# Altium footprint library Tesla_Coil_Parts2.PcbLib: 12 footprints
Each footprint in its own frame and in the unit in brackets; x right, y up, seen from the top. Pads: shape width x height; smd on the part's side, far side on the other; paste and mask are expansions set on the pad; w line width, h text height; cw(c..) or ccw(c..) is an arc to the next point about the centre after c.
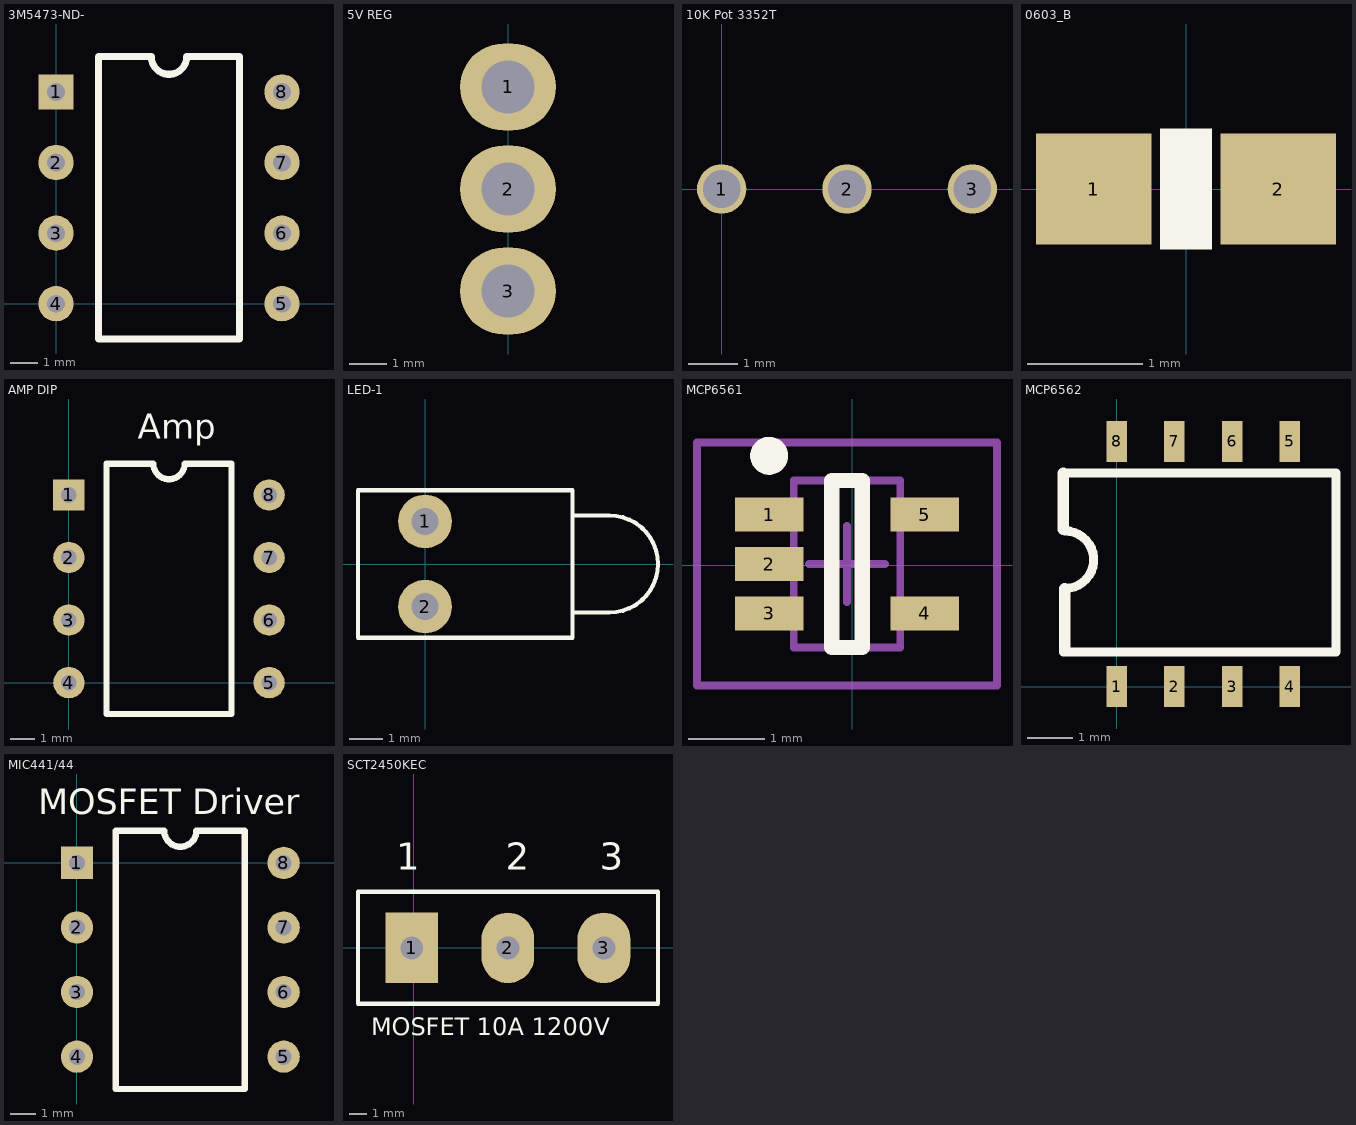
[diagram p0: the footprints below, top view; thin cyan lines are the x and y axes]

## 1-1623849-0 [mil]
via 190,0 diameter 39.37 hole 31.5
via 98.43,0 diameter 39.37 hole 31.5
via 0,0 diameter 39.37 hole 31.5

## 3M5473-ND- [mil]
pads (8):
  rect 50x50 hole 25: 1(0,300)
  round 50 hole 25: 2(0,200) 3(0,100) 4(0,0) 5(320,0) 6(320,100) 7(320,200) 8(320,300)
Top Overlay:
  lines w10: 60,-50 260,-50 260,350 185,350 cw(c160,350) 135,350 60,350 60,-50

## 5V REG [mm]
pads (3):
  oval 2.54x2.3 hole 1.4: 1(0,-5.4) 2(0,-8.1) 3(0,-10.8)

## 10K Pot 3352T [mm]
pads (3):
  round 1 hole 0.762: 1(0,0) 2(2.54,0) 3(5.08,0)

## 0603_B [mm] "0603 Style B SMT resistor"
height 0.96
pads (2):
  rect 1x0.96 smd mask+0.064: 1(-0.8,0) 2(0.8,0)
Top Overlay:
  rectangle: -0.225,-0.525 0.225,0.525
3D body "RES0603.stp": height 0.45, standoff 0, extent -0.8,-0.4 0.8,0.4

## AMP DIP [mil] "Random 8 pin DIP amp"
pads (8):
  rect 50x50 hole 25: 1(0,300)
  round 50 hole 25: 2(0,200) 3(0,100) 4(0,0) 5(320,0) 6(320,100) 7(320,200) 8(320,300)
Top Overlay:
  lines w10: 60,-50 260,-50 260,350 185,350 cw(c160,350) 135,350 60,350 60,-50
  text "Amp" at 110,390 h39.37

## DIP4 [mil]

## LED-1 [mm] "Typical RED GaAs LED; 2 Leads"
pads (2):
  round 1.6 hole 0.8: 1(0,1.27) 2(0,-1.27)
Top Overlay:
  lines w0.127: 4.4,-1.45 5.5,-1.45 ccw(c5.5,0) 5.5,1.45 4.4,1.45 ; -2,-2.2 4.4,-2.2 4.4,2.2 -2,2.2 -2,-2.2

## MCP6561 [mm] "1.8V Output Comparator"
height 0.028
pads (5):
  rect 0.9x0.45 smd: 1(-1.091,0.665) 2(-1.091,0.015) 3(-1.091,-0.635) 4(0.959,-0.635) 5(0.959,0.665)
Top Overlay:
  circle w0.25: c-1.091,1.44 r0.125
  lines w0.2: -0.266,-1.085 0.134,-1.085 0.134,1.115 -0.266,1.115 -0.266,-1.085
Mechanical 13:
  lines w0.1: -0.766,-1.085 -0.766,1.115 0.634,1.115 0.634,-1.085 -0.766,-1.085
Mechanical 15:
  lines w0.1: -0.566,0.015 0.434,0.015 ; -0.066,-0.485 -0.066,0.515 ; -2.041,-1.585 -2.041,1.615 1.909,1.615 1.909,-1.585 -2.041,-1.585
3D body: height 1.1, standoff 0, extent -0.766,-1.085 0.634,1.115

## MCP6562 [mm] "1.8V Output Comparator"
height 0.028
pads (8):
  rect 0.45x0.9 smd: 1(0,0) 2(1.27,0) 3(2.54,0) 4(3.81,0) 5(3.81,5.4) 6(2.54,5.4) 7(1.27,5.4) 8(0,5.4)
Top Overlay:
  lines w0.2: -1.174,0.762 4.826,0.762 4.826,4.662 ; -1.174,4.699 4.826,4.699 ; -1.143,2.159 ccw(c-1.143,2.794) -1.143,3.429
  lines w0.254: -1.174,3.46 -1.174,4.699 ; -1.143,0.793 -1.143,2.159

## MIC441/44 [mil]
pads (8):
  rect 50x50 hole 25: 1(0,0)
  round 50 hole 25: 2(0,-100) 3(0,-200) 4(0,-300) 5(320,-300) 6(320,-200) 7(320,-100) 8(320,0)
Top Overlay:
  lines w10: 60,-350 60,50 135,50 ccw(c160,50) 185,50 260,50 260,-350 60,-350
  text "MOSFET Driver" at -60,75 h39.37

## SCT2450KEC [mm] "Power MOSFET 10A, 1200V"
height 20
pads (3):
  rect 3x4 hole 1.3: 1(-0.127,0)
  oval 3x4 hole 1.3: 2(5.323,0) 3(10.773,0)
Top Overlay:
  lines w0.254: -3.175,-3.175 -3.175,3.175 13.843,3.175 13.843,-3.175 -3.175,-3.175
  text "MOSFET 10A 1200V" at -2.413,-4.953 h1
  text "1" at -1.016,4.445 h1.52
  text "2" at 5.207,4.445 h1.52
  text "3" at 10.541,4.445 h1.52